# EAGLE library part CONN_AUDIO_MIC_JACK_STEREO_SW (library GPLIB_CONN)
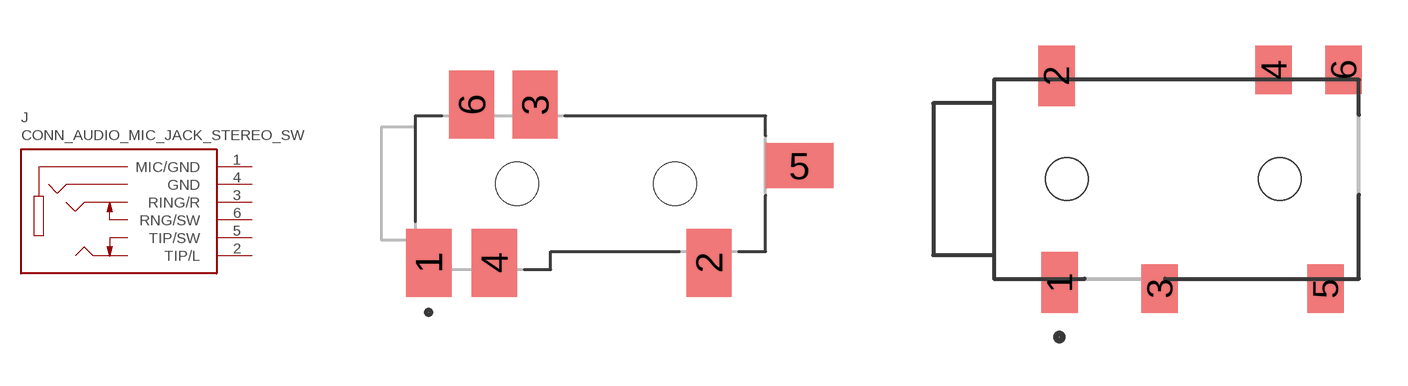
[diagram p19: symbol with the pads of CONN_JACK_STEREO_SW_3.5MM_SM_RA_SJ-43516-SMT-TR; footprints CONN_JACK_STEREO_SW_3.5MM_SM_RA_SJ-43516-SMT-TR, CONN_JACK_STEREO_SW_3.5MM_SM_RA_PJ-332-6A]

Designator prefix J

## CONN_AUDIO_MIC_JACK_STEREO_SW_3.5MM_SM_RA_SJ-43516-SMT-TR  [CONN_JACK_STEREO_SW_3.5MM_SM_RA_SJ-43516-SMT-TR]
1  MIC/GND  pas
2  TIP/L  pas
3  RING/R  pas
4  GND  pas
5  TIP/SW  pas
6  RNG/SW  pas

## CONN_AUDIO_MIC_JACK_STEREO_SW_3.5MM_SM_RA_PJ_-332-6A  [CONN_JACK_STEREO_SW_3.5MM_SM_RA_PJ-332-6A]
1  MIC/GND  pas
2  GND  pas
3  RING/R  pas
4  TIP/L  pas
5  RNG/SW  pas
6  TIP/SW  pas

## Footprint CONN_JACK_STEREO_SW_3.5MM_SM_RA_SJ-43516-SMT-TR (pad centres in mm)
smd 2 x 3: 1 -8.1,-3.5; 2 4.3,-3.5; 3 -3.4,3.5; 4 -5.2,-3.5; 6 -6.2,3.5
smd 3 x 2: 5 8.3,0.8
hole 1.9 at -4.2,0
hole 1.9 at 2.8,0

## Footprint CONN_JACK_STEREO_SW_3.5MM_SM_RA_PJ-332-6A (pad centres in mm)
smd 1.2 x 2: 1 2.15,-3.4; 2 2.05,3.4
smd 1.2 x 1.6: 3 5.45,-3.6; 4 9.2,3.6; 5 10.9,-3.6; 6 11.5,3.6
hole 1.4 at 2.4,0
hole 1.4 at 9.4,0